# EAGLE library part CON_SENSOR (library AtoG)
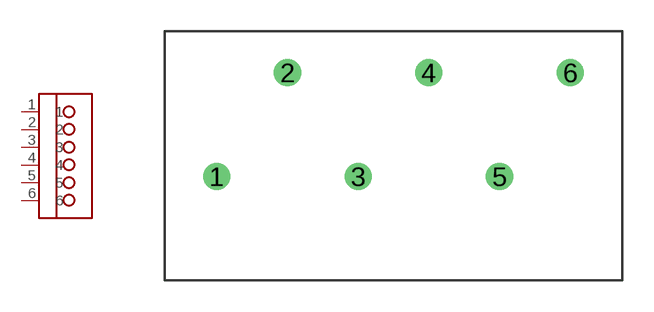
[diagram p5: symbol with the pads of CON_SENSOR; footprint CON_SENSOR]

Designator prefix -

## CON_SENSOR  [CON_SENSOR]
1  1
2  2
3  3
4  4
5  5
6  6

## Footprint CON_SENSOR (pad centres in mm)
drill 0.8: 1 -8.5,-2.5; 2 -5.1,2.5; 3 -1.7,-2.5; 4 1.7,2.5; 5 5.1,-2.5; 6 8.5,2.5